# EAGLE library part ADXL180 (library LM4880)
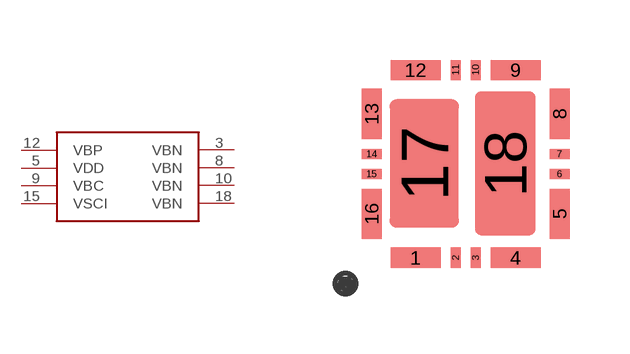
[diagram p175: symbol with the pads of ADXL180; footprint ADXL180]

Designator prefix -

## ADXL180  [ADXL180]
3  VBN
5  VDD
8  VBN
9  VBC
10  VBN
12  VBP
15  VSCI
18  VBN

## Footprint ADXL180 (pad centres in mm)
smd 1.25 x 0.5: 1 1.25,0.15; 4 3.75,0.15; 9 3.75,4.85; 12 1.25,4.85
smd 0.25 x 0.5: 2 2.25,0.15; 3 2.75,0.15; 10 2.75,4.85; 11 2.25,4.85
smd 0.5 x 1.25: 5 4.85,1.25; 8 4.85,3.75; 13 0.15,3.75; 16 0.15,1.25
smd 0.5 x 0.25: 6 4.85,2.25; 7 4.85,2.75; 14 0.15,2.75; 15 0.15,2.25
smd 1.73 x 3.21: 17 1.47,2.51
smd 1.52 x 3.6: 18 3.495,2.51